# EAGLE library part MOSFET_N-CHANNEL_2-ARRAY (library PiB_transistors)
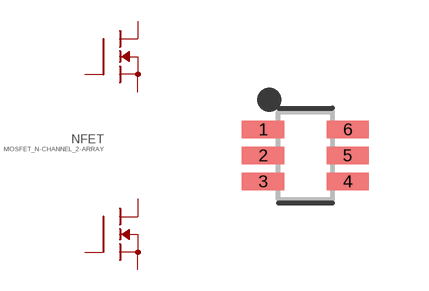
[diagram p1: symbol with the pads of SOT65P230X110-6; footprint SOT65P230X110-6]

Designator prefix NFET

## MOSFET_N-CHANNEL_2-ARRAY_2N7002DW_115MA-60V (DATASHEET: http://www.mccsemi.com/up_pdf/2N7002DW(SOT-363).PDF; DIST: Digikey; DISTLINK: https://www.digikey.com/products/en?keywords=2N7002DW-TPCT-ND; DISTPN: 2N7002DW-TPCT-ND; MFR: Micro Commercial Co; MPN: 2N7002DW-TP; VALUE: 2N7002DW)  [SOT65P230X110-6]
1  S1  pas
2  G1  pas
3  D2  pas
4  S2  pas
5  G2  pas
6  D1  pas

## Footprint SOT65P230X110-6 (pad centres in mm)
6-SOT23, 0.65 mm pitch, 2.30 mm span, 2.00 X 1.25 X 1.10 mm body 6-pin SOT23 package with 0.65 mm pitch, 2.30 mm span with body size 2.00 X 1.25 X 1.10 mm
smd 1.056 x 0.439: 1 -1.057,0.65; 2 -1.057,0; 3 -1.057,-0.65; 4 1.057,-0.65; 5 1.057,0; 6 1.057,0.65